# EAGLE library part ECC88 (library E88CC)
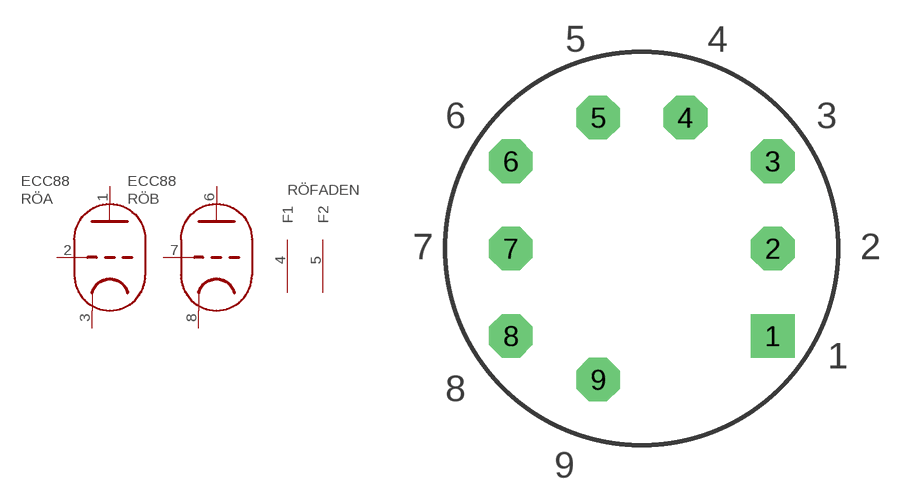
[diagram p5: symbol with the pads of NOVAL_P; footprint NOVAL_P]

Designator prefix RÖ; gates A=TRIODE B=TRIODE FADEN=FADEN

## ECC88  [NOVAL_P]
1  A:A  out
2  A:G  in
3  A:K
4  FADEN:F1  pwr
5  FADEN:F2  pwr
6  B:A  out
7  B:G  in
8  B:K

## Footprint NOVAL_P (pad centres in mm)
drill 1 pad 2.54 square: 1 7.62,-5.08
drill 1 pad 2.54 octagon: 2 7.62,0; 3 7.62,5.08; 4 2.54,7.62; 5 -2.54,7.62; 6 -7.62,5.08; 7 -7.62,0; 8 -7.62,-5.08; 9 -2.54,-7.62